# Altium schematic symbol library patchRF.SchLib: 1 symbol
Pins are listed as number, name and electrical type; pins without a type are passive.

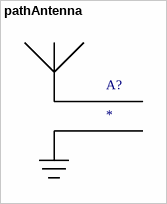
[diagram p0: symbol pathAntenna]

## pathAntenna
designator A?
footprint 4.99 4 elementa
footprint 4.99 1 element
footprint 868 1 element
pins: 1 19, 2 20